# EAGLE library part D38999/24ME35BN (library FSAE Electric)
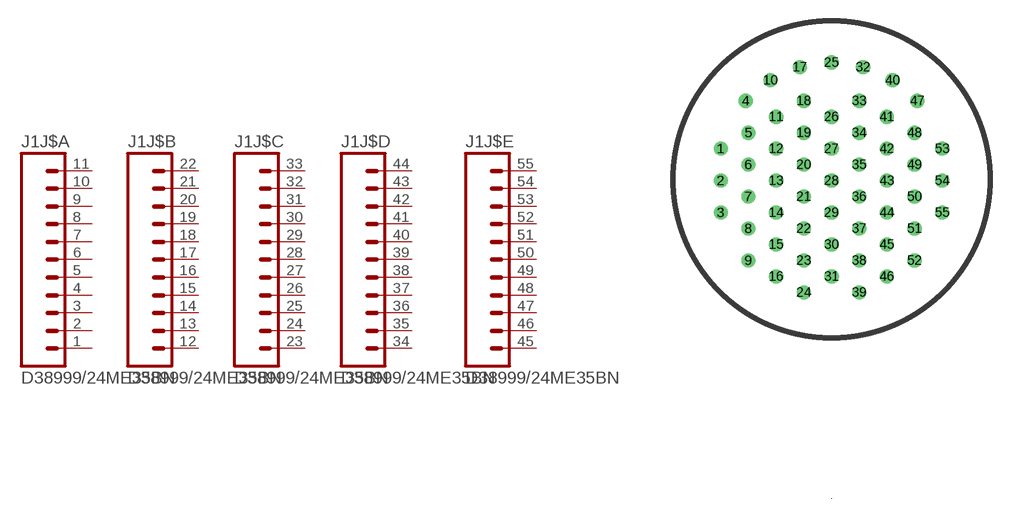
[diagram p29: symbol with the pads of D38999/24ME35BN; footprint D38999/24ME35BN]

Designator prefix J1; gates J$A=M11 J$B=M11 J$C=M11 J$D=M11 J$E=M11

## D38999/24ME35BN  [D38999/24ME35BN]
1  J$A:1  pas
2  J$A:2  pas
3  J$A:3  pas
4  J$A:4  pas
5  J$A:5  pas
6  J$A:6  pas
7  J$A:7  pas
8  J$A:8  pas
9  J$A:9  pas
10  J$A:10  pas
11  J$A:11  pas
12  J$B:1  pas
13  J$B:2  pas
14  J$B:3  pas
15  J$B:4  pas
16  J$B:5  pas
17  J$B:6  pas
18  J$B:7  pas
19  J$B:8  pas
20  J$B:9  pas
21  J$B:10  pas
22  J$B:11  pas
23  J$C:1  pas
24  J$C:2  pas
25  J$C:3  pas
26  J$C:4  pas
27  J$C:5  pas
28  J$C:6  pas
29  J$C:7  pas
30  J$C:8  pas
31  J$C:9  pas
32  J$C:10  pas
33  J$C:11  pas
34  J$D:1  pas
35  J$D:2  pas
36  J$D:3  pas
37  J$D:4  pas
38  J$D:5  pas
39  J$D:6  pas
40  J$D:7  pas
41  J$D:8  pas
42  J$D:9  pas
43  J$D:10  pas
44  J$D:11  pas
45  J$E:1  pas
46  J$E:2  pas
47  J$E:3  pas
48  J$E:4  pas
49  J$E:5  pas
50  J$E:6  pas
51  J$E:7  pas
52  J$E:8  pas
53  J$E:9  pas
54  J$E:10  pas
55  J$E:11  pas

## Footprint D38999/24ME35BN (pad centres in mm)
drill 0.508 pad 0.813: 1 -7.925,2.184; 2 -7.925,-0.102; 3 -7.925,-2.388; 4 -6.147,5.613; 5 -5.944,3.327; 6 -5.944,1.041; 7 -5.944,-1.245; 8 -5.944,-3.531; 9 -5.944,-5.817; 10 -4.369,7.087; 11 -3.962,4.47; 12 -3.962,2.184; 13 -3.962,-0.102; 14 -3.962,-2.388; 15 -3.962,-4.674; 16 -3.962,-6.96; 17 -2.261,8.026; 18 -1.981,5.613; 19 -1.981,3.327; 20 -1.981,1.041; 21 -1.981,-1.245; 22 -1.981,-3.531; 23 -1.981,-5.817; 24 -1.981,-8.103; 25 0,8.357; 26 0,4.47; 27 0,2.184; 28 0,-0.102; 29 0,-2.388; 30 0,-4.674; 31 0,-6.96; 32 2.261,8.026; 33 1.981,5.613; 34 1.981,3.327; 35 1.981,1.041; 36 1.981,-1.245; 37 1.981,-3.531; 38 1.981,-5.817; 39 1.981,-8.103; 40 4.369,7.087; 41 3.962,4.47; 42 3.962,2.184; 43 3.962,-0.102; 44 3.962,-2.388; 45 3.962,-4.674; 46 3.962,-6.96; 47 6.147,5.613; 48 5.944,3.327; 49 5.944,1.041; 50 5.944,-1.245; 51 5.944,-3.531; 52 5.944,-5.817; 53 7.925,2.184; 54 7.925,-0.102; 55 7.925,-2.388